# EAGLE library part 61202021621 (library 61202021621)
Wurth Elektronik 612 Series, 2.54mm Pitch 20 Way 2 Row Straight PCB Header, Solder Termination, 3A Source: Datasheet <http://uk.rs-online.com/web/p/products/7718351>
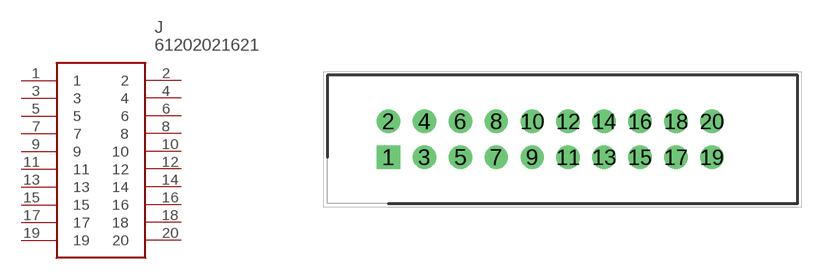
[diagram p0: symbol with the pads of SHDR20W64P254_2X10_3306X910X88; footprint SHDR20W64P254_2X10_3306X910X88]

Designator prefix J

## 61202021621 (Description: Wurth Elektronik 612 Series, 2.54mm Pitch 20 Way 2 Row Straight PCB Header, Solder Termination, 3A; Height: 8.85mm; Manufacturer_Name: Wurth Elektronik; Manufacturer_Part_Number: 61202021621; RS_Part_Number: 7718351; RS_Price-Stock: http://uk.rs-online.com/web/p/products/7718351)  [SHDR20W64P254_2X10_3306X910X88]
1  1
2  2
3  3
4  4
5  5
6  6
7  7
8  8
9  9
10  10
11  11
12  12
13  13
14  14
15  15
16  16
17  17
18  18
19  19
20  20

## Footprint SHDR20W64P254_2X10_3306X910X88 (pad centres in mm)
61202021621
drill 1.1 pad 1.65 square: 1 0,0
drill 1.1 pad 1.65: 2 0,2.54; 3 2.54,0; 4 2.54,2.54; 5 5.08,0; 6 5.08,2.54; 7 7.62,0; 8 7.62,2.54; 9 10.16,0; 10 10.16,2.54; 11 12.7,0; 12 12.7,2.54; 13 15.24,0; 14 15.24,2.54; 15 17.78,0; 16 17.78,2.54; 17 20.32,0; 18 20.32,2.54; 19 22.86,0; 20 22.86,2.54